# Altium schematic symbol library led_4_ca_0.Schlib: 1 symbol
Pins are listed as number, name and electrical type; pins without a type are passive.

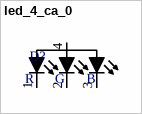
[diagram p0: symbol led_4_ca_0]

## led_4_ca_0
designator D?  (value not drawn)
LED Common Anode
pins: 1, 2, 3, 4
text: R; G; B